# Altium footprint library SQJA70EP-T1_GE3.PcbLib: 3 footprints
Each footprint in its own frame and in the unit in brackets; x right, y up, seen from the top. Pads: shape width x height; smd on the part's side, far side on the other; paste and mask are expansions set on the pad; w line width, h text height; cw(c..) or ccw(c..) is an arc to the next point about the centre after c.
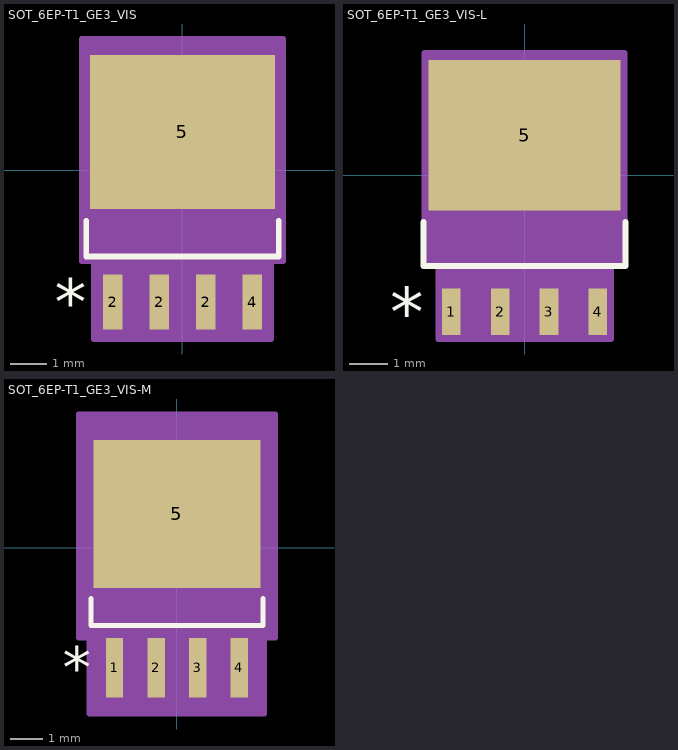
[diagram p0: the footprints below, top view; thin cyan lines are the x and y axes]

## SOT_6EP-T1_GE3_VIS [mil]
pads (5):
  rect 20.97x59.56 smd paste+0 mask+0: 2(-75,-142) 2(-25,-142) 2(25,-142) 4(75,-142)
  rect 199x166 smd paste+0 mask+0: 5(0,41)
Top Overlay:
  lines w6: -103.5,-54.47 -103.5,-93 103.5,-93 103.5,-54.47
  text "*" at -137.5,-167 h50
Mechanical 13:
  lines w1: -98.5,-88 98.5,-88 98.5,88 -98.5,88 -98.5,-88 ; -84.5,-158 -84.5,-88 -65.5,-88 -65.5,-158 -84.5,-158 ; -34.5,-158 -34.5,-88 -15.5,-88 -15.5,-158 -34.5,-158 ; 15.5,-158 15.5,-88 34.5,-88 34.5,-158 15.5,-158 ; 65.5,-158 65.5,-88 84.5,-88 84.5,-158 65.5,-158
  text "*" at -87.5,-103 h50
  text ".Designator" at -137.5,-25 h50
Mechanical 15:
  region: -108.5,-98 -108.5,98 -108.5,141 108.5,141 108.5,98 108.5,-98 95.48,-98 95.48,-181.78 -95.48,-181.78 -95.48,-98
  lines w6: -108.5,-98 -108.5,98 -108.5,141 108.5,141 108.5,98 108.5,-98 95.48,-98 95.48,-181.78 -95.48,-181.78 -95.48,-98 -108.5,-98
3D body "SOT_6EP-T1_GE3_VIS.step": height 67.09, standoff -2.01, extent -98.5,-157.99 98.5,110

## SOT_6EP-T1_GE3_VIS-L [mil]
pads (5):
  rect 19x47.75 smd paste+0 mask+0: 1(-75,-140.03) 2(-25,-140.03) 3(25,-140.03) 4(75,-140.03)
  rect 197x154 smd paste+0 mask+0: 5(0,41)
Top Overlay:
  lines w6: -103.5,-48.11 -103.5,-93 103.5,-93 103.5,-48.11
  text ".Designator" at -137.5,-25 h50
  text "*" at -137.5,-165.03 h50
Mechanical 13:
  lines w1: -98.5,-88 98.5,-88 98.5,88 -98.5,88 -98.5,-88 ; -84.5,-158 -84.5,-88 -65.5,-88 -65.5,-158 -84.5,-158 ; -34.5,-158 -34.5,-88 -15.5,-88 -15.5,-158 -34.5,-158 ; 15.5,-158 15.5,-88 34.5,-88 34.5,-158 15.5,-158 ; 65.5,-158 65.5,-88 84.5,-88 84.5,-158 65.5,-158
  text "*" at -87.5,-103 h50
  text ".Designator" at -137.5,-25 h50
Mechanical 15:
  region: -102.5,-92 -102.5,92 -102.5,125 102.5,125 102.5,92 102.5,-92 88.5,-92 88.5,-167.91 -88.5,-167.91 -88.5,-92
  lines w6: -102.5,92 -102.5,-92 -88.5,-92 -88.5,-167.91 88.5,-167.91 88.5,-92 102.5,-92 102.5,92 ; -102.5,92 -102.5,92 ; -102.5,92 -102.5,125 102.5,125 102.5,92 ; 102.5,92 102.5,92
3D body "SOT_6EP-T1_GE3_VIS.step": height 67.09, standoff -2.01, extent -98.5,-157.99 98.5,110

## SOT_6EP-T1_GE3_VIS-M [mil]
pads (5):
  rect 20.97x71.37 smd paste+0 mask+0: 1(-75,-143.97) 2(-25,-143.97) 3(25,-143.97) 4(75,-143.97)
  rect 201x178 smd paste+0 mask+0: 5(0,41)
Top Overlay:
  lines w6: -103.5,-60.75 -103.5,-93 103.5,-93 103.5,-60.75
  text ".Designator" at -137.5,-25 h50
  text "*" at -137.5,-168.97 h50
Mechanical 13:
  lines w1: -98.5,-88 98.5,-88 98.5,88 -98.5,88 -98.5,-88 ; -84.5,-158 -84.5,-88 -65.5,-88 -65.5,-158 -84.5,-158 ; -34.5,-158 -34.5,-88 -15.5,-88 -15.5,-158 -34.5,-158 ; 15.5,-158 15.5,-88 34.5,-88 34.5,-158 15.5,-158 ; 65.5,-158 65.5,-88 84.5,-88 84.5,-158 65.5,-158
  text "*" at -87.5,-103 h50
  text ".Designator" at -137.5,-25 h50
Mechanical 15:
  region: -118.5,-108 -118.5,108 -118.5,161 118.5,161 118.5,108 118.5,-108 105.48,-108 105.48,-199.65 -105.48,-199.65 -105.48,-108
  lines w6: -118.5,108 -118.5,-108 -105.48,-108 -105.48,-199.65 105.48,-199.65 105.48,-108 118.5,-108 118.5,108 ; -118.5,108 -118.5,108 ; -118.5,108 -118.5,161 118.5,161 118.5,108 ; 118.5,108 118.5,108
3D body "SOT_6EP-T1_GE3_VIS.step": height 67.09, standoff -2.01, extent -98.5,-157.99 98.5,110